# Altium schematic symbol library MIC2288YD5-TR.SchLib: 1 symbol
Pins are listed as number, name and electrical type; pins without a type are passive.

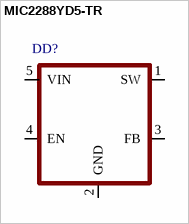
[diagram p0: symbol MIC2288YD5-TR]

## MIC2288YD5-TR
designator DD?
pins: 1 SW, 2 GND, 3 FB, 4 EN, 5 VIN